# Altium footprint library TIDA-01576_ADS8686S_AFE.PcbLib: 71 footprints (part 3 of 5)
Each footprint in its own frame and in the unit in brackets; x right, y up, seen from the top. Pads: shape width x height; smd on the part's side, far side on the other; paste and mask are expansions set on the pad; w line width, h text height; cw(c..) or ccw(c..) is an arc to the next point about the centre after c.
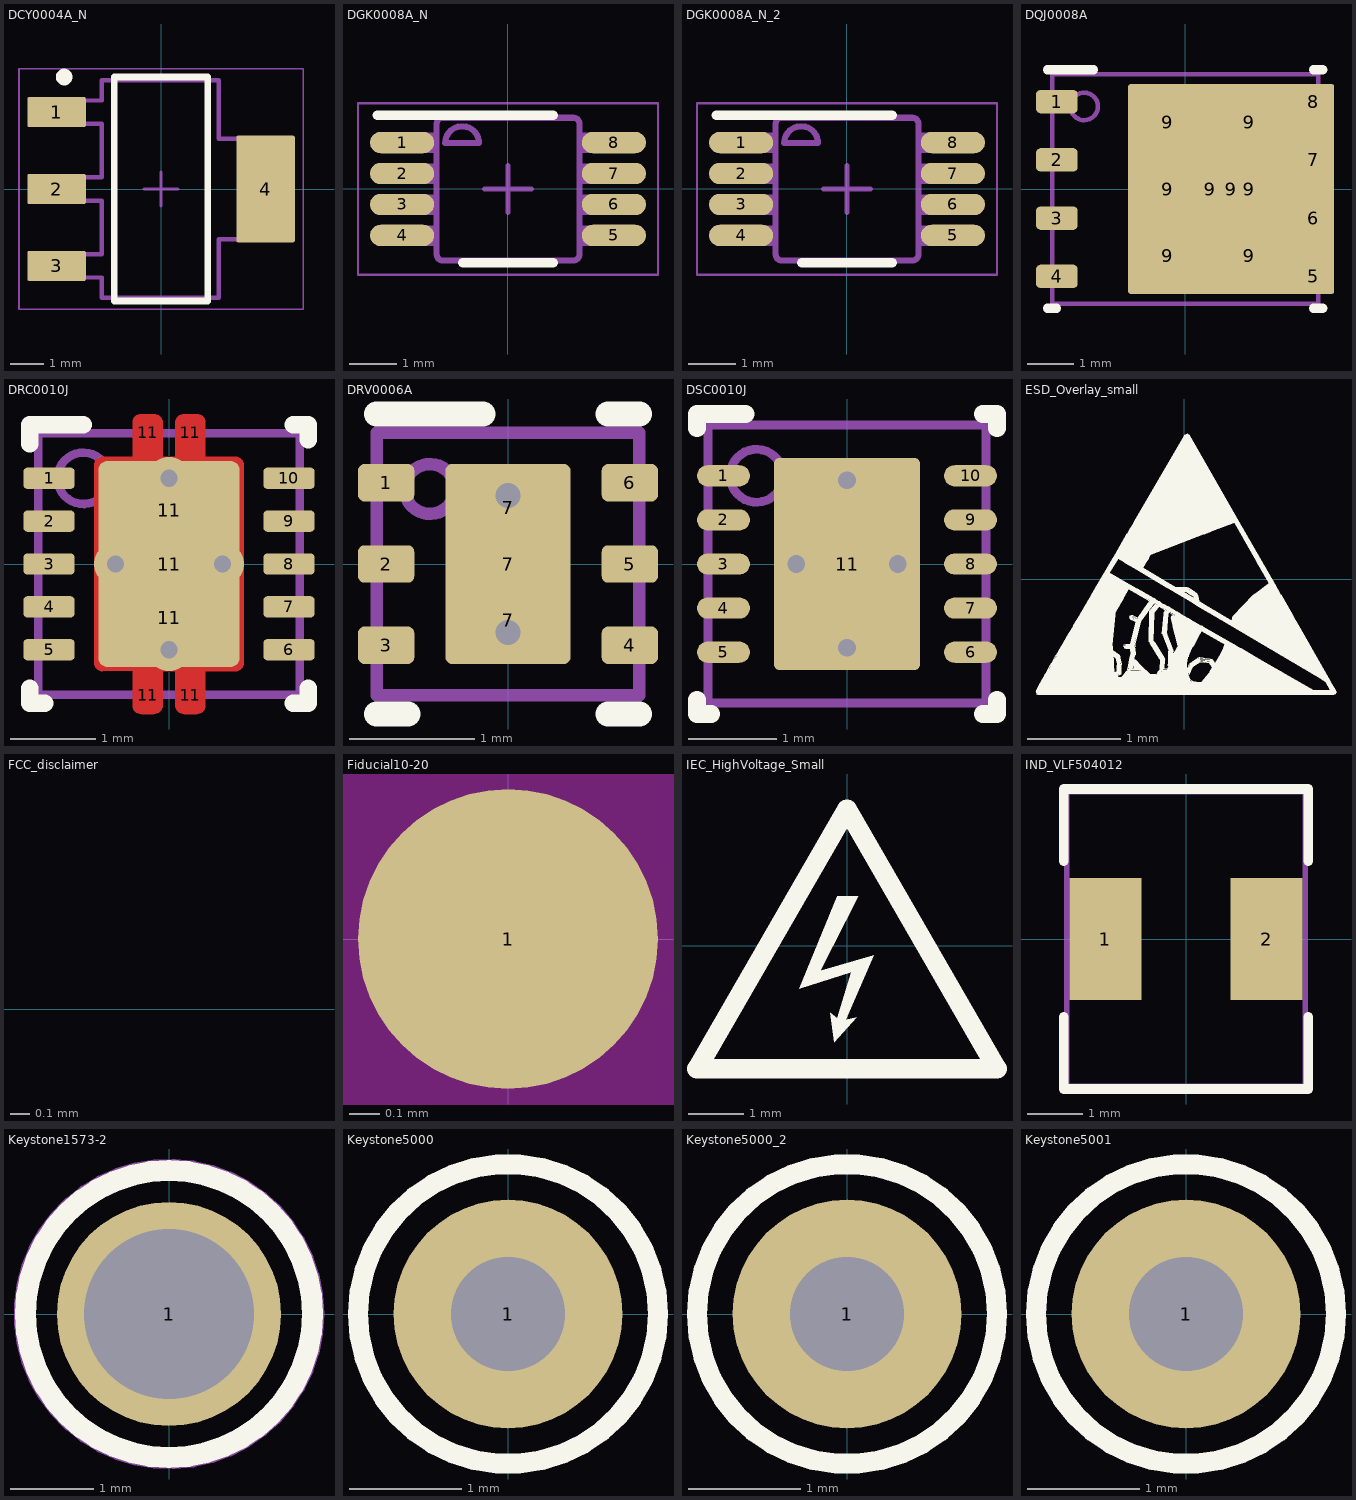
[diagram p2: the footprints below, top view; thin cyan lines are the x and y axes]

## DCY0004A_N [mm] "SOT223/SC73, 4-Leads, Body 6.5x3.5mm, Pitch 2.3mm, Lead Span 7mm, IPC Medium Density"
height 1.8
pads (4):
  rrect11% 1.75x0.9 smd: 1(-3.125,2.3) 2(-3.125,0) 3(-3.125,-2.3)
  rrect6% 1.75x3.2 smd: 4(3.125,0)
Top Overlay:
  circle w0.25: c-2.9,3.35 r0.125
  lines w0.2: -1.4,-3.35 -1.4,3.35 1.4,3.35 1.4,-3.35 -1.4,-3.35
Mechanical 5:
  lines w0.127: -3.525,-2.65 -3.525,-1.95 -2.797,-1.95 -2.612,-1.95 -2.374,-1.95 -2.003,-1.95 -1.775,-1.95 -1.775,-0.35 -2.003,-0.35 -2.374,-0.35 -2.612,-0.35 -2.797,-0.35 -3.525,-0.35 -3.525,0.35 -2.797,0.35 -2.612,0.35 -2.374,0.35 -2.003,0.35 -1.775,0.35 -1.775,1.95 -2.003,1.95 -2.374,1.95 -2.612,1.95 -2.797,1.95 -3.525,1.95 -3.525,2.65 -2.797,2.65 -2.612,2.65 -2.374,2.65 -2.003,2.65 -1.775,2.65 -1.775,3.25 1.725,3.25 1.725,1.5 1.953,1.5 2.324,1.5 2.562,1.5 2.747,1.5 3.475,1.5 3.475,-1.5 2.747,-1.5 2.562,-1.5 2.324,-1.5 1.953,-1.5 1.725,-1.5 1.725,-3.25 -1.775,-3.25 -1.775,-2.65 -2.003,-2.65 -2.374,-2.65 -2.612,-2.65 -2.797,-2.65 -3.525,-2.65
  text ".Designator" at 0.391,-0.493 h0.51
Mechanical 15:
  lines w0.05: -4.25,-3.6 4.25,-3.6 4.25,3.6 -4.25,3.6 -4.25,-3.6
  lines w0.1: -0.5,0 0.5,0 ; 0,-0.5 0,0.5
3D body "DCY0004A.stp": height 1.68, standoff 0, extent -3.48,-3.25 3.48,3.25

## DGK0008A_N [mm] "TSOP, 8-Leads, Body 3x3mm, Pitch 0.65mm, IPC Medium Density"
height 1.1
pads (8):
  oval 1.35x0.45 smd: 1(-2.225,0.975) 2(-2.225,0.325) 3(-2.225,-0.325) 4(-2.225,-0.975) 5(2.225,-0.975) 6(2.225,-0.325) 7(2.225,0.325) 8(2.225,0.975)
Top Overlay:
  lines w0.2: -2.75,1.55 0.95,1.55 ; -0.95,-1.55 0.95,-1.55
Mechanical 5:
  lines w0.127: -2.45,-1.131 -2.45,-0.826 -2.21,-0.826 -2.091,-0.826 -2.087,-0.826 -1.784,-0.826 -1.498,-0.826 -1.498,-1.131 -1.784,-1.131 -2.087,-1.131 -2.091,-1.131 -2.21,-1.131 -2.45,-1.131 ; -2.45,-0.48 -2.45,-0.175 -2.21,-0.175 -2.091,-0.175 -2.087,-0.175 -1.784,-0.175 -1.498,-0.175 -1.498,-0.48 -1.784,-0.48 -2.087,-0.48 -2.091,-0.48 -2.21,-0.48 -2.45,-0.48 ; -2.45,0.17 -2.45,0.475 -2.21,0.475 -2.091,0.475 -2.087,0.475 -1.784,0.475 -1.498,0.475 -1.498,0.17 -1.784,0.17 -2.087,0.17 -2.091,0.17 -2.21,0.17 -2.45,0.17 ; -2.45,0.82 -2.45,1.125 -2.21,1.125 -2.091,1.125 -2.087,1.125 -1.784,1.125 -1.498,1.125 -1.498,0.82 -1.784,0.82 -2.087,0.82 -2.091,0.82 -2.21,0.82 -2.45,0.82 ; -1.497,-1.377 ccw(c-1.37,-1.374) -1.373,-1.501 -1.371,-1.501 1.373,-1.501 1.375,-1.501 ccw(c1.373,-1.374) 1.5,-1.377 1.5,-1.374 1.5,1.369 1.5,1.372 ccw(c1.373,1.369) 1.375,1.496 1.373,1.496 -1.371,1.496 -1.373,1.496 ccw(c-1.37,1.369) -1.497,1.372 -1.498,1.369 -1.498,-1.374 -1.497,-1.377 ; -1.32,0.962 cw(c-0.964,0.962) -0.609,0.962 -1.32,0.962 ; 1.5,-1.131 1.786,-1.131 2.089,-1.131 2.093,-1.131 2.213,-1.131 2.452,-1.131 2.452,-0.826 2.213,-0.826 2.093,-0.826 2.089,-0.826 1.786,-0.826 1.5,-0.826 1.5,-1.131 ; 1.5,-0.48 1.786,-0.48 2.089,-0.48 2.093,-0.48 2.213,-0.48 2.452,-0.48 2.452,-0.175 2.213,-0.175 2.093,-0.175 2.089,-0.175 1.786,-0.175 1.5,-0.175 1.5,-0.48 ; 1.5,0.17 1.786,0.17 2.089,0.17 2.093,0.17 2.213,0.17 2.452,0.17 2.452,0.475 2.213,0.475 2.093,0.475 2.089,0.475 1.786,0.475 1.5,0.475 1.5,0.17 ; 1.5,0.82 1.786,0.82 2.089,0.82 2.093,0.82 2.213,0.82 2.452,0.82 2.452,1.125 2.213,1.125 2.093,1.125 2.089,1.125 1.786,1.125 1.5,1.125 1.5,0.82
  text ".Designator" at 0.039,-0.44 h0.51
Mechanical 15:
  lines w0.05: -3.15,-1.8 -3.15,1.8 3.15,1.8 3.15,-1.8 -3.15,-1.8
  lines w0.1: -0.5,0 0.5,0 ; 0,-0.5 0,0.5
3D body "DGK0008A.stp": height 0.96, standoff 0, extent -2.451,-1.499 2.451,1.499

## DGK0008A_N_2 [mm]
pads (8):
  oval 1.35x0.45 smd: 1(-2.225,0.975) 2(-2.225,0.325) 3(-2.225,-0.325) 4(-2.225,-0.975) 5(2.225,-0.975) 6(2.225,-0.325) 7(2.225,0.325) 8(2.225,0.975)
Top Overlay:
  lines w0.2: -2.75,1.55 0.95,1.55 ; -0.95,-1.55 0.95,-1.55
Mechanical 5:
  lines w0.127: -2.45,-1.131 -2.45,-0.826 -2.21,-0.826 -2.091,-0.826 -2.087,-0.826 -1.784,-0.826 -1.498,-0.826 -1.498,-1.131 -1.784,-1.131 -2.087,-1.131 -2.091,-1.131 -2.21,-1.131 -2.45,-1.131 ; -2.45,-0.48 -2.45,-0.175 -2.21,-0.175 -2.091,-0.175 -2.087,-0.175 -1.784,-0.175 -1.498,-0.175 -1.498,-0.48 -1.784,-0.48 -2.087,-0.48 -2.091,-0.48 -2.21,-0.48 -2.45,-0.48 ; -2.45,0.17 -2.45,0.475 -2.21,0.475 -2.091,0.475 -2.087,0.475 -1.784,0.475 -1.498,0.475 -1.498,0.17 -1.784,0.17 -2.087,0.17 -2.091,0.17 -2.21,0.17 -2.45,0.17 ; -2.45,0.82 -2.45,1.125 -2.21,1.125 -2.091,1.125 -2.087,1.125 -1.784,1.125 -1.498,1.125 -1.498,0.82 -1.784,0.82 -2.087,0.82 -2.091,0.82 -2.21,0.82 -2.45,0.82 ; -1.497,-1.377 ccw(c-1.37,-1.374) -1.373,-1.501 -1.371,-1.501 1.373,-1.501 1.375,-1.501 ccw(c1.373,-1.374) 1.5,-1.377 1.5,-1.374 1.5,1.369 1.5,1.372 ccw(c1.373,1.369) 1.375,1.496 1.373,1.496 -1.371,1.496 -1.373,1.496 ccw(c-1.37,1.369) -1.497,1.372 -1.498,1.369 -1.498,-1.374 -1.497,-1.377 ; -1.32,0.962 cw(c-0.964,0.962) -0.609,0.962 -1.32,0.962 ; 1.5,-1.131 1.786,-1.131 2.089,-1.131 2.093,-1.131 2.213,-1.131 2.452,-1.131 2.452,-0.826 2.213,-0.826 2.093,-0.826 2.089,-0.826 1.786,-0.826 1.5,-0.826 1.5,-1.131 ; 1.5,-0.48 1.786,-0.48 2.089,-0.48 2.093,-0.48 2.213,-0.48 2.452,-0.48 2.452,-0.175 2.213,-0.175 2.093,-0.175 2.089,-0.175 1.786,-0.175 1.5,-0.175 1.5,-0.48 ; 1.5,0.17 1.786,0.17 2.089,0.17 2.093,0.17 2.213,0.17 2.452,0.17 2.452,0.475 2.213,0.475 2.093,0.475 2.089,0.475 1.786,0.475 1.5,0.475 1.5,0.17 ; 1.5,0.82 1.786,0.82 2.089,0.82 2.093,0.82 2.213,0.82 2.452,0.82 2.452,1.125 2.213,1.125 2.093,1.125 2.089,1.125 1.786,1.125 1.5,1.125 1.5,0.82
  text ".Designator" at -0.625,-0.292 h0.51
Mechanical 15:
  lines w0.05: -3.15,-1.8 -3.15,1.8 3.15,1.8 3.15,-1.8 -3.15,-1.8
  lines w0.1: -0.5,0 0.5,0 ; 0,-0.5 0,0.5
3D body "DGK0008A.stp": height 0.96, standoff 0, extent -2.451,-1.499 2.451,1.499

## DQJ0008A [mm] "SMD, 8-Leads, Body 5.75x4.9mm"
height 1.1
pads (16):
  rrect39% 0.91x0.51 smd paste-0.05 mask-0.05: 1(-2.795,1.905) 2(-2.795,0.635) 3(-2.795,-0.635) 4(-2.795,-1.905) 5(2.795,-1.905) 6(2.795,-0.635) 7(2.795,0.635) 8(2.795,1.905)
  rrect50% 1.58x1.25 on Top Paste: 9(-0.38,-1.45) 9(-0.38,0) 9(-0.38,1.45) 9(1.4,-1.45) 9(1.4,0) 9(1.4,1.45)
  rrect50% 3.48x4.47 on Top Solder: 9(0.55,0)
  rrect2% 4.49x4.57 smd paste-2.5 mask-2.5: 9(1.005,0)
Top Overlay:
  lines w0.2: -3,-2.6 -2.8,-2.6 ; -3,2.6 -2,2.6 ; 2.8,-2.6 3,-2.6 ; 2.8,2.6 3,2.6
Top Solder:
  rectangle: 2.25,-0.84 2.475,-0.43
  rectangle: 2.25,-2.11 2.475,-1.7
  rectangle: 2.25,1.7 2.475,2.11
  rectangle: 2.25,0.43 2.475,0.84
Mechanical 5:
  circle w0.1: c-2.2,1.8 r0.3
  lines w0.1: -2.9,-2.5 -2.9,2.5 2.9,2.5 2.9,-2.5 -2.9,-2.5
  text ".Designator" at 0.141,-0.468 h0.51
3D body "DQJ0008A.stp": height 1.15, standoff 0, extent -3.13,-2.45 3.13,2.45

## DRC0010J [mm] "SON, 10-Leads, Body 3x3mm, Pitch 0.5mm, Thermal Pad 2.4x1.65mm, TI Recommended"
height 1
pads (17):
  rrect40% 0.6x0.25 smd: 1(-1.4,1) 2(-1.4,0.5) 3(-1.4,0) 4(-1.4,-0.5) 5(-1.4,-1) 6(1.4,-1) 7(1.4,-0.5) 8(1.4,0) 9(1.4,0.5) 10(1.4,1)
  rrect50% 0.25x0.34 on Top Paste: 11(-0.25,-1.53) 11(-0.25,1.53) 11(0.25,-1.53) 11(0.25,1.53)
  rrect50% 1.5x1.06 on Top Paste: 11(0,-0.63) 11(0,0.63)
  rrect12% 1.65x2.4 smd paste-1 mask-2: 11(0,0)
via 0.625,0 diameter 0.5 hole 0.2
via -0.625,0 diameter 0.5 hole 0.2
via 0,1 diameter 0.5 hole 0.2
via 0,-1 diameter 0.5 hole 0.2
Top Layer:
  region: -0.775,-1.25 -0.425,-1.25 -0.425,-1.65 -0.425,-1.67 -0.41,-1.707 -0.382,-1.735 -0.345,-1.75 -0.325,-1.75 -0.175,-1.75 -0.155,-1.75 -0.118,-1.735 -0.09,-1.707 -0.075,-1.67 -0.075,-1.65 -0.075,-1.25 0.075,-1.25 0.075,-1.65 0.075,-1.67 0.09,-1.707 0.118,-1.735 0.155,-1.75 0.175,-1.75 0.325,-1.75 0.345,-1.75 0.382,-1.735 0.41,-1.707 0.425,-1.67 0.425,-1.65 0.425,-1.25 0.775,-1.25 0.795,-1.25 0.832,-1.235 0.86,-1.207 0.875,-1.17 0.875,-1.15 0.875,1.15 0.875,1.17 0.86,1.207 0.832,1.235 0.795,1.25 0.775,1.25 0.425,1.25 0.425,1.65 0.425,1.67 0.41,1.707 0.382,1.735 0.345,1.75 0.325,1.75 0.175,1.75 0.155,1.75 0.118,1.735 0.09,1.707 0.075,1.67 0.075,1.65 0.075,1.25 -0.075,1.25 -0.075,1.65 -0.075,1.67 -0.09,1.707 -0.118,1.735 -0.155,1.75 -0.175,1.75 -0.325,1.75 -0.345,1.75 -0.382,1.735 -0.41,1.707 -0.425,1.67 -0.425,1.65 -0.425,1.25 -0.775,1.25 -0.795,1.25 -0.832,1.235 -0.86,1.207 -0.875,1.17 -0.875,1.15 -0.875,-1.15 -0.875,-1.17 -0.86,-1.207 -0.832,-1.235 -0.795,-1.25
Top Overlay:
  lines w0.2: -1.625,-1.45 -1.625,-1.625 -1.45,-1.625 ; -1.625,1.4 -1.625,1.625 -1,1.625 ; 1.45,-1.625 1.625,-1.625 1.625,-1.45 ; 1.45,1.625 1.625,1.625 1.625,1.45
Mechanical 5:
  circle w0.1: c-1,1 r0.3
  lines w0.1: -1.525,-1.525 -1.525,1.525 1.525,1.525 1.525,-1.525 -1.525,-1.525
  text ".Designator" at -3.936,-0.681 h0.51
3D body "DRC0010J.stp": height 0.77, standoff 0, extent -1.5,-1.5 1.5,1.5

## DRV0006A [mm] "SON, 6-Leads, Body 2x2mm, Pitch 0.65mm, Thermal Pad 1.6x1mm, TI Recommended"
height 0.8
pads (9):
  rrect33% 0.45x0.3 smd: 1(-0.975,0.65) 2(-0.975,0) 3(-0.975,-0.65) 4(0.975,-0.65) 5(0.975,0) 6(0.975,0.65)
  rrect50% 1x0.7 on Top Paste: 7(0,-0.45) 7(0,0.45)
  rrect10% 1x1.6 smd paste-0.5: 7(0,0)
via 0,0.55 diameter 0.5 hole 0.2
via 0,-0.55 diameter 0.5 hole 0.2
Top Overlay:
  lines w0.2: -1.05,-1.2 -0.8,-1.2 ; -1.05,1.2 -0.2,1.2 ; 0.8,-1.2 1.05,-1.2 ; 0.8,1.2 1.05,1.2
Mechanical 5:
  circle w0.1: c-0.625,0.6 r0.2
  lines w0.1: -1.05,-1.05 -1.05,1.05 1.05,1.05 1.05,-1.05 -1.05,-1.05
  text ".Designator" at 0.381,0.247 h0.51
3D body: height 0.8, standoff 0, extent -1.05,-1.05 1.05,1.05
3D body: height 0.81, standoff 0.5, extent -0.824,0.401 -0.426,0.799

## DSC0010J [mm] "SON, 10-Leads, Body 3x3mm, Pitch 0.5mm, Thermal Pad 2.4x1.65mm, TI Recommended"
height 0.8
pads (11):
  rrect100% 0.6x0.24 smd: 1(-1.4,1) 2(-1.4,0.5) 3(-1.4,0) 4(-1.4,-0.5) 5(-1.4,-1) 6(1.4,-1) 7(1.4,-0.5) 8(1.4,0) 9(1.4,0.5) 10(1.4,1)
  rrect6% 1.65x2.4 smd paste-0.825: 11(0,0)
via 0,-0.95 diameter 0.5 hole 0.2
via 0,0.95 diameter 0.5 hole 0.2
via -0.575,0 diameter 0.5 hole 0.2
via 0.575,0 diameter 0.5 hole 0.2
Top Overlay:
  lines w0.2: -1.7,-1.54 -1.7,-1.7 -1.54,-1.7 ; -1.7,1.54 -1.7,1.7 -1.15,1.7 ; 1.54,-1.7 1.7,-1.7 1.7,-1.54 ; 1.54,1.7 1.7,1.7 1.7,1.54
Top Paste:
  rectangle: -0.75,-1.16 0.75,-0.1
  rectangle: -0.75,0.1 0.75,1.16
Mechanical 5:
  circle w0.1: c-1.025,1 r0.3
  lines w0.1: -1.575,-1.575 -1.575,1.575 1.575,1.575 1.575,-1.575 -1.575,-1.575
  text ".Designator" at 0.381,0.201 h0.51
3D body: height 0.8, standoff 0, extent -1.574,-1.574 1.574,1.574
3D body: height 0.81, standoff 0.5, extent -1.324,0.701 -0.726,1.299

## ESD_Overlay_small [mm]
height 1.75
Top Overlay:
  drawing of 901 lines, arcs and shapes, not listed

## FCC_disclaimer [mm]
height 1.75
Top Overlay:
  text "For evaluation only; not FCC approved for resale." at -17.399,-0.406 h1.52

## Fiducial10-20 [mm]
height 1.75
pads (1):
  round 1 smd mask+0.5: 1(0,0)
Top Layer keep-out:
  circle w1.178: c0,0 r0.5

## IEC_HighVoltage_Small [mm]
Top Overlay:
  region: -0.178,0.889 0.203,0.889 -0.483,-0.457 0.483,-0.178 -0.025,-1.346 0.178,-1.295 -0.229,-1.753 -0.305,-1.219 -0.178,-1.321 0.076,-0.483 -0.864,-0.787
  lines w0.356: -2.718,-2.235 0,2.472 2.718,-2.235 -2.718,-2.235

## IND_VLF504012 [mm] "TDK"
height 1.2
pads (2):
  rect 1.3x2.2 smd: 1(-1.45,0) 2(1.45,0)
Top Overlay:
  lines w0.178: -2.2,-1.4 -2.2,-2.7 2.2,-2.7 2.2,-1.4 ; -2.2,1.4 -2.2,2.7 2.2,2.7 2.2,1.4
Mechanical 5:
  lines w0.1: -2.15,-2.65 -2.15,2.65 2.15,2.65 2.15,-2.65 -2.15,-2.65
  text ".Designator" at 0.359,0.181 h0.51
3D body: height 1.2, standoff 0, extent -2.149,-2.649 2.149,2.649

## Keystone1573-2 [mm] "Double Turret"
height 4.7
pads (1):
  round 2.7 hole 2.05: 1(0,0)
Top Overlay:
  circle w0.254: c0,0 r1.727
Mechanical 5:
  circle w0.127: c0,0 r1.805
  text ".Designator" at 0.239,-0.914 h0.51
3D body "Keystone1573-2.stp": height 4.72, standoff -2.06, extent -1.18,-1.178 1.171,1.178

## Keystone5000 [mil] "For Keystone 500x miniature loop terminals"
height 181.1
pads (1):
  round 80 hole 40: 1(0,0)
Top Overlay:
  circle w7: c0,0 r52.5
Mechanical 5:
  circle w3.94: c0,0 r52.5
  text ".Designator" at -19.32,98 h20
3D body "Keystone_5000.stp": height 181.97, standoff -118.11, extent -49,-49 49.04,49.24

## Keystone5000_2 [mil]
pads (1):
  round 80 hole 40: 1(0,0)
Top Overlay:
  circle w7: c0,0 r52.5
Mechanical 5:
  circle w3.94: c0,0 r52.5
  text ".Designator" at -136,52 h20
3D body "Keystone_5000.stp": height 181.97, standoff -118.11, extent -49,-49 49.04,49.24

## Keystone5001 [mil] "For Keystone 500x miniature loop terminals"
height 181.1
pads (1):
  round 80 hole 40: 1(0,0)
Top Overlay:
  circle w7: c0,0 r52.5
Mechanical 5:
  circle w3.94: c0,0 r52.5
  text ".Designator" at -135,-25 h20
3D body "Keystone_5001.stp": height 181.97, standoff -118.11, extent -49,-49 49.04,49.24